# Altium footprint library AMP Footprints.PcbLib: 903 footprints (part 42 of 58)
Each footprint in its own frame and in the unit in brackets; x right, y up, seen from the top. Pads: shape width x height; smd on the part's side, far side on the other; paste and mask are expansions set on the pad; w line width, h text height; cw(c..) or ccw(c..) is an arc to the next point about the centre after c.
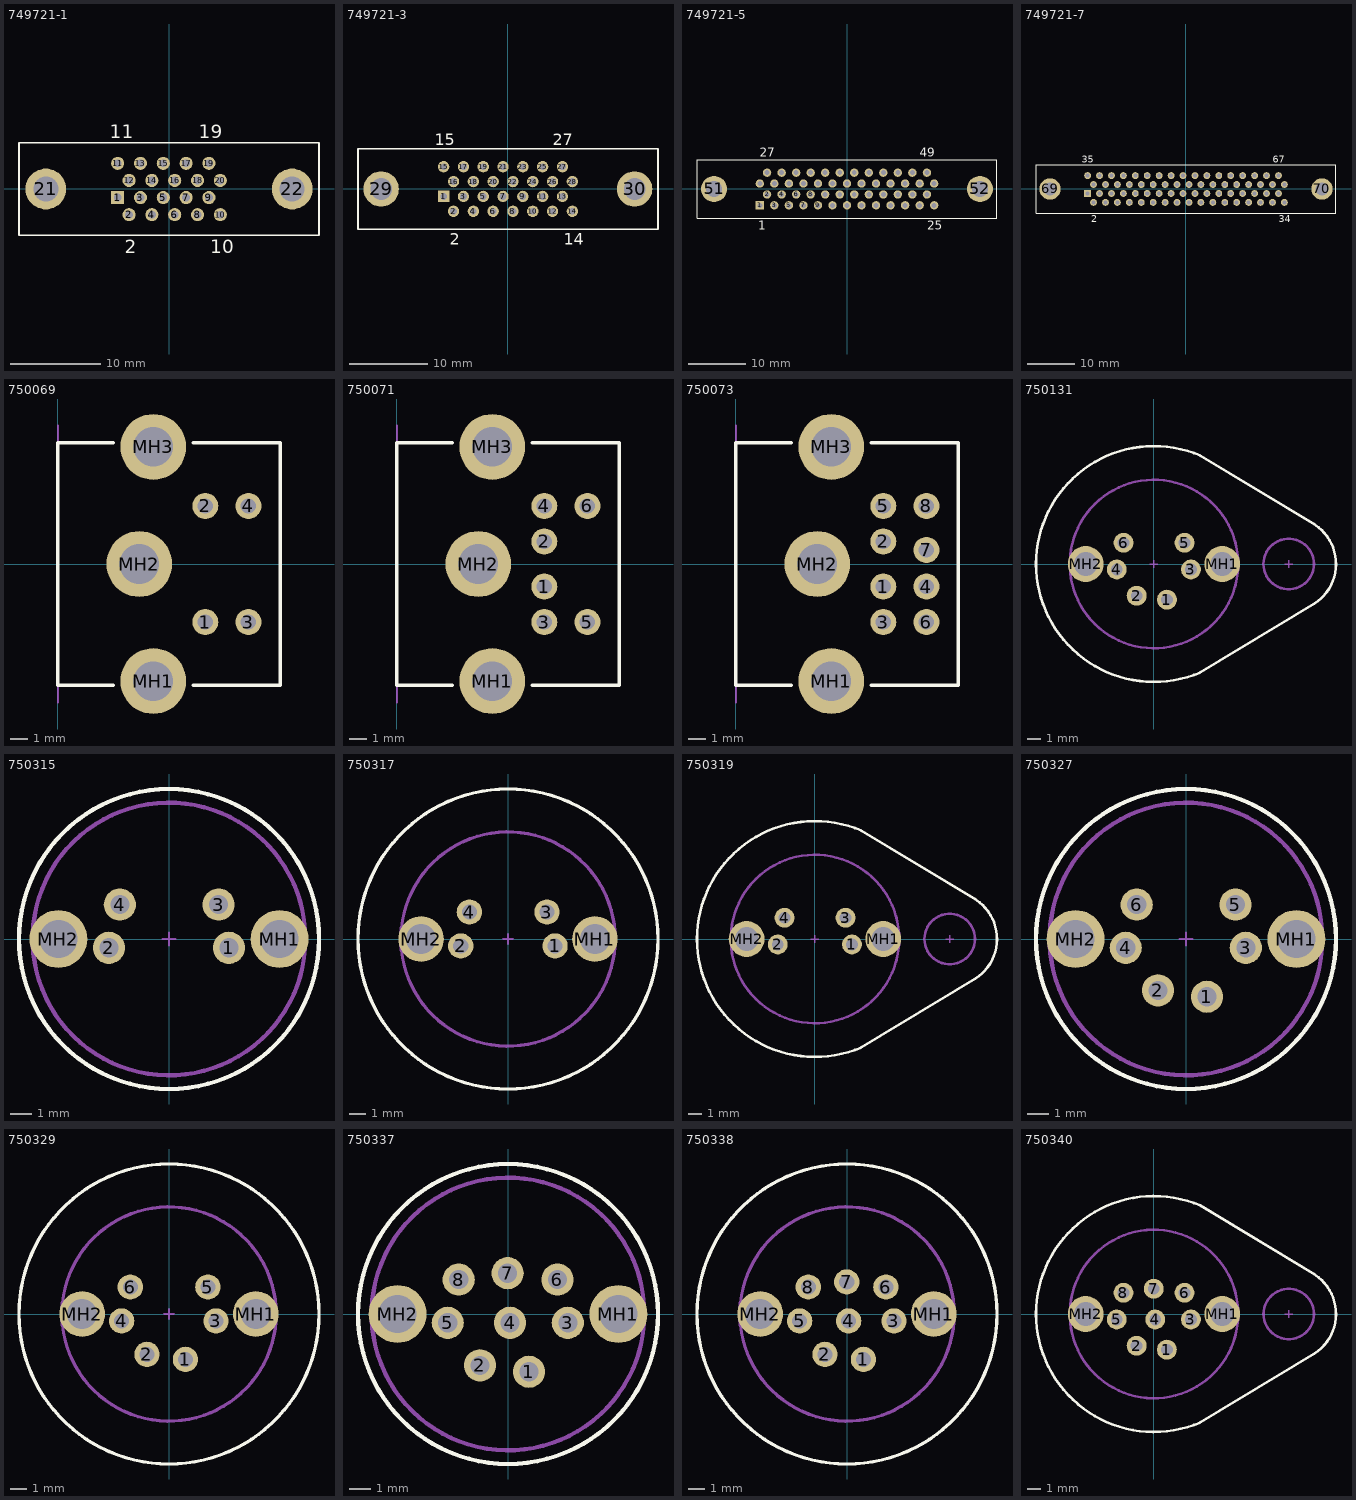
[diagram p41: the footprints below, top view; thin cyan lines are the x and y axes]

## 749721-1 [mm] "Connector; D Subminiature 050 Series; 20 Position; Vertical"
height 9.05
pads (22):
  rect 1.46x1.46 hole 0.86: 1(-5.715,-0.953)
  round 1.46 hole 0.86: 2(-4.445,-2.857) 3(-3.175,-0.953) 4(-1.905,-2.857) 5(-0.635,-0.953) 6(0.635,-2.857) 7(1.905,-0.953) 8(3.175,-2.857) 9(4.445,-0.953) 10(5.715,-2.857) 11(-5.715,2.857) 12(-4.445,0.953) 13(-3.175,2.857) 14(-1.905,0.953) 15(-0.635,2.857) 16(0.635,0.953) 17(1.905,2.857) 18(3.175,0.953) 19(4.445,2.857) 20(5.715,0.953)
  round 4.55 hole 2.77: 21(-13.715,0) 22(13.715,0)
Top Overlay:
  lines w0.2: -16.7,-5.155 16.7,-5.155 16.7,5.155 -16.7,5.155 -16.7,-5.155
  text "2" at -4.945,-7.13 h1.5
  text "11" at -6.59,5.63 h1.5
  text "10" at 4.59,-7.13 h1.5
  text "19" at 3.32,5.63 h1.5

## 749721-3 [mm] "Connector; D Subminiature 050 Series; 28 Position; Vertical"
height 9.05
pads (30):
  rect 1.46x1.46 hole 0.86: 1(-8.24,-0.953)
  round 1.46 hole 0.86: 2(-6.97,-2.857) 3(-5.7,-0.953) 4(-4.43,-2.857) 5(-3.16,-0.953) 6(-1.89,-2.857) 7(-0.62,-0.953) 8(0.65,-2.857) 9(1.92,-0.953) 10(3.19,-2.857) 11(4.46,-0.953) 12(5.73,-2.857) 13(7,-0.953) 14(8.27,-2.857) 15(-8.24,2.857) 16(-6.97,0.953) 17(-5.7,2.857) 18(-4.43,0.953) 19(-3.16,2.857) 20(-1.89,0.953) 21(-0.62,2.857) 22(0.65,0.953) 23(1.92,2.857) 24(3.19,0.953) 25(4.46,2.857) 26(5.73,0.953) 27(7,2.857) 28(8.27,0.953)
  round 4.55 hole 2.77: 29(-16.255,0) 30(16.255,0)
Top Overlay:
  lines w0.2: -19.225,-5.155 -19.225,5.155 19.255,5.155 19.255,-5.155 -19.225,-5.155
  text "27" at 5.75,5.63 h1.5
  text "15" at -9.365,5.63 h1.5
  text "14" at 7.145,-7.13 h1.5
  text "2" at -7.47,-7.13 h1.5

## 749721-5 [mm] "Connector; D Subminiature 050 Series; 50 Position; Vertical"
height 9.05
pads (52):
  rect 1.46x1.46 hole 0.86: 1(-15.24,-2.857)
  round 1.46 hole 0.86: 2(-13.97,-0.953) 3(-12.7,-2.857) 4(-11.43,-0.953) 5(-10.16,-2.857) 6(-8.89,-0.953) 7(-7.62,-2.857) 8(-6.35,-0.953) 9(-5.08,-2.857) 10(-3.81,-0.953) 11(-2.54,-2.857) 12(-1.27,-0.953) 13(0,-2.857) 14(1.27,-0.953) 15(2.54,-2.857) 16(3.81,-0.953) 17(5.08,-2.857) 18(6.35,-0.953) 19(7.62,-2.857) 20(8.89,-0.953) 21(10.16,-2.857) 22(11.43,-0.953) 23(12.7,-2.857) 24(13.97,-0.953) 25(15.24,-2.857) 26(-15.24,0.953) 27(-13.97,2.857) 28(-12.7,0.953) 29(-11.43,2.857) 30(-10.16,0.953) 31(-8.89,2.857) 32(-7.62,0.953) 33(-6.35,2.857) 34(-5.08,0.953) 35(-3.81,2.857) 36(-2.54,0.953) 37(-1.27,2.857) 38(0,0.953) 39(1.27,2.857) 40(2.54,0.953) 41(3.81,2.857) 42(5.08,0.953) 43(6.35,2.857) 44(7.62,0.953) 45(8.89,2.857) 46(10.16,0.953) 47(11.43,2.857) 48(12.7,0.953) 49(13.97,2.857) 50(15.24,0.953)
  round 4.55 hole 2.77: 51(-23.24,0) 52(23.24,0)
Top Overlay:
  lines w0.2: -26.225,-5.155 26.225,-5.155 26.225,5.155 -26.225,5.155 -26.225,-5.155
  text "49" at 12.72,5.63 h1.5
  text "27" at -15.22,5.63 h1.5
  text "25" at 13.99,-7.13 h1.5
  text "1" at -15.49,-7.13 h1.5

## 749721-7 [mm] "Connector; D Subminiature 050 Series; 68 Position; Vertical"
height 9.05
pads (70):
  rect 1.46x1.46 hole 0.86: 1(-20.955,-0.953)
  round 1.46 hole 0.86: 2(-19.685,-2.857) 3(-18.415,-0.953) 4(-17.145,-2.857) 5(-15.875,-0.953) 6(-14.605,-2.857) 7(-13.335,-0.953) 8(-12.065,-2.857) 9(-10.795,-0.953) 10(-9.525,-2.857) 11(-8.255,-0.953) 12(-6.985,-2.857) 13(-5.715,-0.953) 14(-4.445,-2.857) 15(-3.175,-0.953) 16(-1.905,-2.857) 17(-0.635,-0.953) 18(0.635,-2.857) 19(1.905,-0.953) 20(3.175,-2.857) 21(4.445,-0.953) 22(5.715,-2.857) 23(6.985,-0.953) 24(8.255,-2.857) 25(9.525,-0.953) 26(10.795,-2.857) 27(12.065,-0.953) 28(13.335,-2.857) 29(14.605,-0.953) 30(15.875,-2.857) 31(17.145,-0.953) 32(18.415,-2.857) 33(19.685,-0.953) 34(20.955,-2.857) 35(-20.955,2.857) 36(-19.685,0.953) 37(-18.415,2.857) 38(-17.145,0.953) 39(-15.875,2.857) 40(-14.605,0.953) 41(-13.335,2.857) 42(-12.065,0.953) 43(-10.795,2.857) 44(-9.525,0.953) 45(-8.255,2.857) 46(-6.985,0.953) 47(-5.715,2.857) 48(-4.445,0.953) 49(-3.175,2.857) 50(-1.905,0.953) 51(-0.635,2.857) 52(0.635,0.953) 53(1.905,2.857) 54(3.175,0.953) 55(4.445,2.857) 56(5.715,0.953) 57(6.985,2.857) 58(8.255,0.953) 59(9.525,2.857) 60(10.795,0.953) 61(12.065,2.857) 62(13.335,0.953) 63(14.605,2.857) 64(15.875,0.953) 65(17.145,2.857) 66(18.415,0.953) 67(19.685,2.857) 68(20.955,0.953)
  round 4.55 hole 2.77: 69(-28.955,0) 70(28.955,0)
Top Overlay:
  lines w0.2: -31.94,-5.155 31.94,-5.155 31.94,5.155 -31.94,5.155 -31.94,-5.155
  text "67" at 18.435,5.63 h1.5
  text "35" at -22.205,5.63 h1.5
  text "34" at 19.705,-7.13 h1.5
  text "2" at -20.185,-7.13 h1.5

## 750069 [mm] "Connector; Circular DIN, Thru-Hole; 4 Position; Right Angle; Pitch 2.05/2.6 mm; Body 14 x 12.83 x 13 mm (WxTxH), Shielded, Front panel grounding"
height 13
pads (7):
  round 1.5 hole 0.89: 1(8.51,-3.35) 2(8.51,3.35) 3(11,-3.35) 4(11,3.35)
  round 3.8 hole 2.29: MH1(5.51,-6.76) MH2(4.7,0) MH3(5.51,6.76)
Top Overlay:
  lines w0.2: 3.21,-7 0,-7 0,7 3.21,7 ; 7.81,-7 12.83,-7 12.83,7 7.81,7
Mechanical 1:
  lines w0.1: 0,-8 0,8
  text "PCB Edge" at 0.6,-6.7 h0.25

## 750071 [mm] "Connector; Circular DIN, Thru-Hole; 6 Position; Right Angle; Pitch 2.05/2.6 mm; Body 14 x 12.83 x 13 mm (WxTxH), Shielded"
height 13
pads (9):
  round 1.5 hole 0.89: 1(8.51,-1.3) 2(8.51,1.3) 3(8.51,-3.35) 4(8.51,3.35) 5(11,-3.35) 6(11,3.35)
  round 3.8 hole 2.29: MH1(5.51,-6.76) MH2(4.7,0) MH3(5.51,6.76)
Top Overlay:
  lines w0.2: 3.21,-7 0,-7 0,7 3.21,7 ; 7.81,-7 12.83,-7 12.83,7 7.81,7
Mechanical 1:
  lines w0.1: 0,-8 0,8
  text "PCB Edge" at 0.6,-6.6 h0.25

## 750073 [mm] "Connector; Circular DIN, Thru-Hole; 8 Position; Right Angle; Pitch 2.05/2.6 mm; Body 14 x 12.83 x 13 mm (WxTxH), Shielded, Front panel grounding"
height 13
pads (11):
  round 1.5 hole 0.89: 1(8.51,-1.3) 2(8.51,1.3) 3(8.51,-3.35) 4(11,-1.3) 5(8.51,3.35) 6(11,-3.35) 7(11,0.81) 8(11,3.35)
  round 3.8 hole 2.29: MH1(5.51,-6.76) MH2(4.7,0) MH3(5.51,6.76)
Top Overlay:
  lines w0.2: 3.2,-7 0,-7 0,7 3.2,7 ; 7.8,-6.99 12.83,-7 12.83,7 7.8,7
Mechanical 1:
  lines w0.1: 0,-8 0,8
  text "PCB Edge" at 0.6,-6.6 h0.25

## 750131 [mm] "Connector; Circular DIN, Thru-Hole; 6 Position; Vertical; Diameter 17.78 mm, Shielded, Front panel grounding, Front panel screw-down"
height 9.52
pads (8):
  round 1.5 hole 0.89: 1(0.975,-2.69) 2(-1.305,-2.39) 3(2.785,-0.41) 4(-2.805,-0.41) 5(2.305,1.6) 6(-2.295,1.6)
  round 2.7 hole 1.78: MH1(5.145,0) MH2(-5.145,0)
Top Overlay:
  lines w0.2: 3.467,8.184 ccw(c-0.005,0) 3.468,-8.183 12.099,-2.982 ccw(c10.172,0) 12.151,2.947 3.467,8.184
Mechanical 1:
  circle w0.2: c-0.005,0 r6.35
  circle w0.2: c10.155,0 r1.905
  lines w0.1: -0.305,0 0.295,0 ; -0.005,-0.3 -0.005,0.3 ; 9.855,-0.02 10.455,0 ; 10.155,-0.3 10.155,0.3
  text "Panel Cut-out" at -2.4,3.8 h0.5
  text "Recommended" at -2.4,4.7 h0.5

## 750315 [mm] "Connector; Circular DIN, Thru-Hole; 4 Position; Vertical; Diameter 13.97 mm"
height 9.52
pads (6):
  round 1.5 hole 0.89: 1(2.79,-0.41) 2(-2.8,-0.41) 3(2.31,1.6) 4(-2.29,1.6)
  round 2.7 hole 1.78: MH1(5.15,0) MH2(-5.15,0)
Top Overlay:
  circle w0.2: c0,0 r6.985
Mechanical 1:
  circle w0.2: c0,0 r6.35
  lines w0.1: -0.3,0 0.3,0 ; 0,-0.3 0,0.3
  text "Panel Cut-out" at -2.4,3.8 h0.5
  text "Recommended" at -2.4,4.7 h0.5

## 750317 [mm] "Connector; Circular DIN, Thru-Hole; 4 Position; Vertical; Diameter 17.78 mm, Shielded"
height 9.52
pads (6):
  round 1.5 hole 0.89: 1(2.79,-0.41) 2(-2.8,-0.41) 3(2.31,1.6) 4(-2.29,1.6)
  round 2.7 hole 1.78: MH1(5.15,0) MH2(-5.15,0)
Top Overlay:
  circle w0.2: c0,0 r8.89
Mechanical 1:
  circle w0.2: c0,0 r6.35
  lines w0.1: -0.3,0 0.3,0 ; 0,-0.3 0,0.3
  text "Panel Cut-out" at -2.4,3.8 h0.5
  text "Recommended" at -2.4,4.7 h0.5

## 750319 [mm] "Connector; Circular DIN, Thru-Hole; 4 Position; Vertical; Diameter 17.78 mm, Shielded, Front panel grounding, Front panel screw-down"
height 9.52
pads (6):
  round 1.5 hole 0.89: 1(2.79,-0.41) 2(-2.8,-0.41) 3(2.31,1.6) 4(-2.29,1.6)
  round 2.7 hole 1.78: MH1(5.15,0) MH2(-5.15,0)
Top Overlay:
  lines w0.2: 3.472,8.184 ccw(c0,0) 3.473,-8.183 12.104,-2.982 ccw(c10.177,0) 12.156,2.947 3.472,8.184
Mechanical 1:
  circle w0.2: c10.16,0 r1.905
  circle w0.2: c0,0 r6.35
  lines w0.1: -0.3,0 0.3,0 ; 0,-0.3 0,0.3 ; 9.86,-0.02 10.46,0 ; 10.16,-0.3 10.16,0.3
  text "Recommended" at -2.4,4.7 h0.5
  text "Panel Cut-out" at -2.4,3.8 h0.5

## 750327 [mm] "Connector; Circular DIN, Thru-Hole; 6 Position; Vertical; Diameter 13.97 mm"
height 9.52
pads (8):
  round 1.5 hole 0.89: 1(0.975,-2.69) 2(-1.305,-2.39) 3(2.785,-0.41) 4(-2.805,-0.41) 5(2.305,1.6) 6(-2.295,1.6)
  round 2.7 hole 1.78: MH1(5.145,0) MH2(-5.145,0)
Top Overlay:
  circle w0.2: c0,0 r6.985
Mechanical 1:
  circle w0.2: c0,0 r6.35
  lines w0.1: -0.3,0 0.3,0 ; 0,-0.3 0,0.3
  text "Panel Cut-out" at -2.4,3.8 h0.5
  text "Recommended" at -2.4,4.7 h0.5

## 750329 [mm] "Connector; Circular DIN, Thru-Hole; 6 Position; Vertical; Diameter 17.78 mm, Shielded"
height 9.52
pads (8):
  round 1.5 hole 0.89: 1(0.975,-2.69) 2(-1.305,-2.39) 3(2.785,-0.41) 4(-2.805,-0.41) 5(2.305,1.6) 6(-2.295,1.6)
  round 2.7 hole 1.78: MH1(5.145,0) MH2(-5.145,0)
Top Overlay:
  circle w0.2: c0,0 r8.89
Mechanical 1:
  circle w0.2: c0,0 r6.35
  lines w0.1: -0.3,0 0.3,0 ; 0,-0.3 0,0.3
  text "Panel Cut-out" at -2.4,3.8 h0.5
  text "Recommended" at -2.4,4.7 h0.5

## 750337 [mm] "Connector; Circular DIN, Thru-Hole; 8 Position; Vertical; Diameter 13.97 mm"
height 9.52
pads (10):
  round 1.5 hole 0.89: 1(0.975,-2.69) 2(-1.305,-2.39) 3(2.785,-0.41) 4(0.095,-0.41) 5(-2.805,-0.41) 6(2.305,1.6) 7(-0.015,1.9) 8(-2.295,1.6)
  round 2.7 hole 1.78: MH1(5.145,0) MH2(-5.145,0)
Top Overlay:
  circle w0.2: c0,0 r6.985
Mechanical 1:
  circle w0.2: c0,0 r6.35
  lines w0.1: -0.3,0 0.3,0 ; 0,-0.3 0,0.3
  text "Recommended" at -2.4,4.7 h0.5
  text "Panel Cut-out" at -2.4,3.8 h0.5

## 750338 [mm] "Connector; Circular DIN, Thru-Hole; 8 Position; Vertical; Diameter 17.78 mm, Shielded"
height 9.52
pads (10):
  round 1.5 hole 0.89: 1(0.975,-2.69) 2(-1.305,-2.39) 3(2.785,-0.41) 4(0.095,-0.41) 5(-2.805,-0.41) 6(2.305,1.6) 7(-0.015,1.9) 8(-2.295,1.6)
  round 2.7 hole 1.78: MH1(5.145,0) MH2(-5.145,0)
Top Overlay:
  circle w0.2: c0,0 r8.89
Mechanical 1:
  circle w0.2: c0,0 r6.35
  lines w0.1: -0.3,0 0.3,0 ; 0,-0.3 0,0.3
  text "Panel Cut-out" at -2.4,3.8 h0.5
  text "Recommended" at -2.4,4.7 h0.5

## 750340 [mm] "Connector; Circular DIN, Thru-Hole; 8 Position; Vertical; Diameter 17.78 mm, Shielded, Front panel grounding, Front panel screw-down"
height 9.52
pads (10):
  round 1.5 hole 0.89: 1(0.975,-2.69) 2(-1.305,-2.39) 3(2.785,-0.41) 4(0.095,-0.41) 5(-2.805,-0.41) 6(2.305,1.6) 7(-0.015,1.9) 8(-2.295,1.6)
  round 2.7 hole 1.78: MH1(5.145,0) MH2(-5.145,0)
Top Overlay:
  lines w0.2: 3.472,8.184 ccw(c0,0) 3.473,-8.183 12.099,-2.982 ccw(c10.172,0) 12.151,2.947 3.472,8.184
Mechanical 1:
  circle w0.2: c0,0 r6.35
  circle w0.2: c10.16,0 r1.9
  lines w0.1: -0.3,0 0.3,0 ; 0,-0.3 0,0.3 ; 9.86,0 10.46,0 ; 10.16,-0.3 10.16,0.3
  text "Panel Cut-out" at -2.4,3.8 h0.5
  text "Recommended" at -2.4,4.7 h0.5